# Altium footprint library USB-A-S-F-B-TH.PcbLib: 1 footprints
Each footprint in its own frame and in the unit in brackets; x right, y up, seen from the top. Pads: shape width x height; smd on the part's side, far side on the other; paste and mask are expansions set on the pad; w line width, h text height; cw(c..) or ccw(c..) is an arc to the next point about the centre after c.
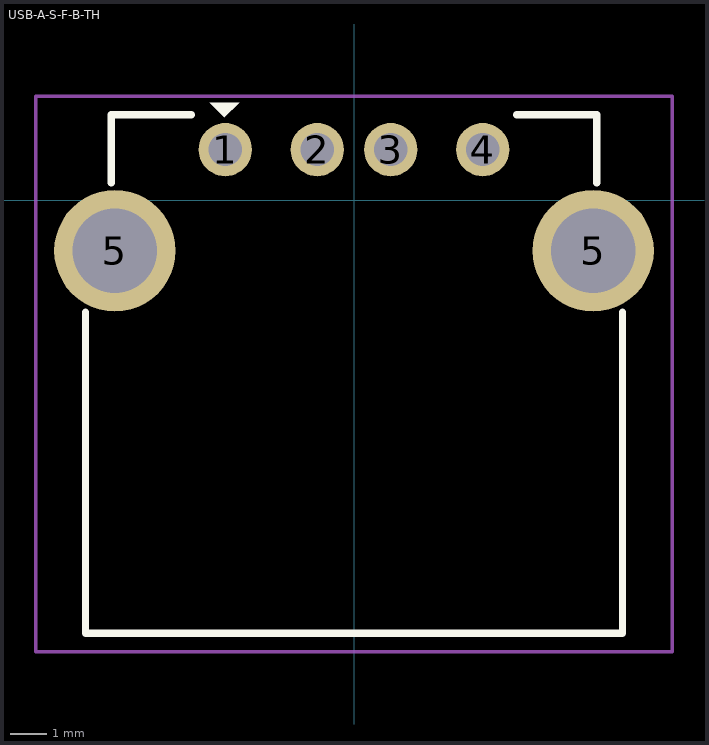
[diagram p0: the footprint, top view; thin cyan lines are the x and y axes]

## USB-A-S-F-B-TH [mm]
pads (6):
  round 1.45 hole 0.9: 1(-3.5,1.375) 2(-1,1.375) 3(1,1.375) 4(3.5,1.375)
  round 3.3 hole 2.3: 5(-6.5,-1.375) 5(6.5,-1.375)
Top Overlay:
  region: -3.925,2.65 -3.125,2.65 -3.525,2.25
  lines w0.2: -7.3,-3.05 -7.3,-11.775 7.3,-11.775 7.3,-3.05 ; -6.6,0.475 -6.6,2.325 -4.425,2.325 ; 4.425,2.325 6.6,2.325 6.6,0.475
Top Courtyard:
  lines w0.1: -8.65,-12.275 -8.65,2.825 8.65,2.825 8.65,-12.275 -7.3,-12.275 -8.65,-12.275
3D body "USB-A-S-F-B-TH.stp": height 7.47, standoff -4.42, extent -7.874,-11.775 7.874,2.325